# EAGLE library part G6Y-1 (library NewSDR)
OMRON G6Y-1
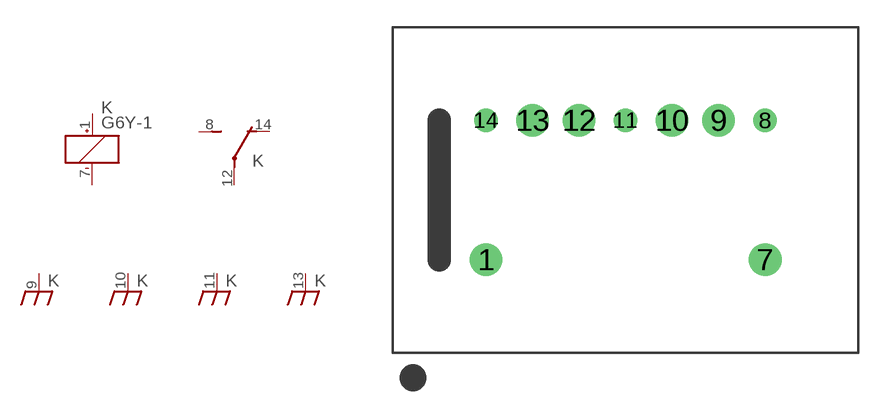
[diagram p133: symbol with the pads of G6Y-1; footprint G6Y-1]

Designator prefix K; gates G$1=K+- G$2=U G$3=SHIELD G$4=SHIELD G$5=SHIELD G$6=SHIELD

## G6Y-1  [G6Y-1]
1  G$1:+  pas
7  G$1:-  pas
8  G$2:S  pas
9  G$3:SH  pas
10  G$4:SH  pas
11  G$5:SH  pas
12  G$2:P  pas
13  G$6:SH  pas
14  G$2:O  pas

## Footprint G6Y-1 (pad centres in mm)
OMRON G6Y-1
drill 1.2: 1 -7.62,-3.81; 7 7.62,-3.81; 9 5.08,3.81; 10 2.54,3.81; 12 -2.54,3.81; 13 -5.08,3.81
drill 0.8: 8 7.62,3.81; 11 0,3.81; 14 -7.62,3.81